# Altium schematic symbol library B39162B4327P810.SchLib: 2 symbols
Pins are listed as number, name and electrical type; pins without a type are passive.

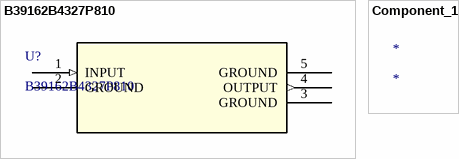
[diagram p0: symbols B39162B4327P810 to Component_1]

## B39162B4327P810
designator U?
No Description Available; Manufacturer_Name: Qualcomm; Copyright: Copyright (C) 2025 Ultra Librarian. All rights reserved.; Manufacturer_Part_Number: B39162B4327P810; RefDes: RefDes; Type: Type
footprint B39162B4327P810_TDK
pins: 1 INPUT (in), 2 GROUND (power), 3 GROUND (power), 4 OUTPUT (out), 5 GROUND (power)

## Component_1
designator *